# EAGLE library part BMP280 (library BMP280)
BMP280 Absolute Barometric Pressure Sensor for Battery Powered Devices 2 x 2.5mm Check prices <https://pricing.snapeda.com/parts/BMP280/Bosch/view-part?ref=eda>
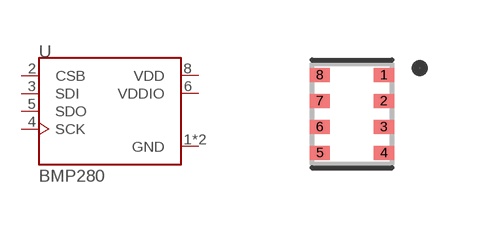
[diagram p0: symbol with the pads of XDCR_BMP280; footprint XDCR_BMP280]

Designator prefix U

## BMP280 (Availability: Good; Description: Pressure Sensor 4.35PSI ~ 15.95PSI (30kPa ~ 110kPa) Absolute 16b 8-SMD; MF: Bosch; MP: BMP280; Package: SMD-8 Bosch Sensortec; Price: None; Purchase-URL: https://pricing.snapeda.com/search/part/BMP280/?ref=eda)  [XDCR_BMP280]
1  GND  pwr
2  CSB  in
3  SDI
4  SCK  in
5  SDO
6  VDDIO  pwr
7  GND  pwr
8  VDD  pwr

## Footprint XDCR_BMP280 (pad centres in mm)
smd 0.5 x 0.35: 1 0.8,0.975; 2 0.8,0.325; 3 0.8,-0.325; 4 0.8,-0.975; 5 -0.8,-0.975; 6 -0.8,-0.325; 7 -0.8,0.325; 8 -0.8,0.975